# EAGLE library part ZX62D-B-5P8 (library angrypig7_Library)
SMD+DIP Micro USB; MICRO-B-SMD
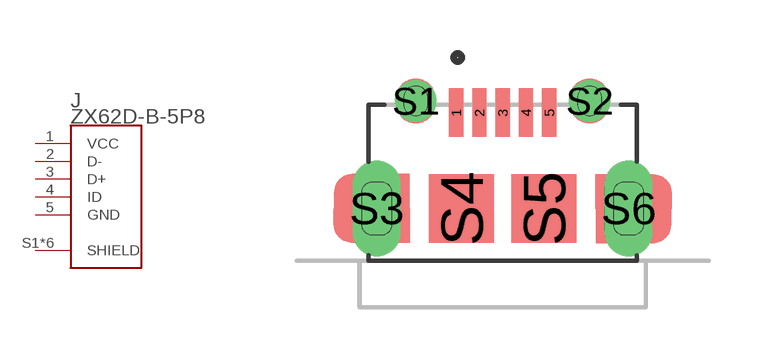
[diagram p5: symbol with the pads of HRS_ZX62D-B-5P8; footprint HRS_ZX62D-B-5P8]

Designator prefix J

## ZX62D-B-5P8 (AVAILABILITY: Unavailable; DESCRIPTION: USB - micro B USB 2.0 Receptacle Connector 5 Position Surface Mount, Right Angle; Through Hole; MF: Hirose; MP: ZX62D-B-5P8; PACKAGE: None; PRICE: None)  [HRS_ZX62D-B-5P8]
1  VCC  pas
2  D-  pas
3  D+  pas
4  ID  pas
5  GND  pas
S1  SHIELD  pas
S2  SHIELD  pas
S3  SHIELD  pas
S4  SHIELD  pas
S5  SHIELD  pas
S6  SHIELD  pas

## Footprint HRS_ZX62D-B-5P8 (pad centres in mm)
smd 0.4 x 1.35: 1 -1.3,2.6; 2 -0.65,2.6; 3 0,2.6; 4 0.65,2.6; 5 1.3,2.6
drill 0.65 pad 1.05: S1 -2.425,2.925; S2 2.425,2.925
drill 0.825 pad 0.95 long: S3 -3.513,-0.075; S6 3.513,-0.075
smd 1.8 x 1.9: S4 -1.15,-0.075; S5 1.15,-0.075